# Altium schematic symbol library TL3472ID.SchLib: 1 symbol
Pins are listed as number, name and electrical type; pins without a type are passive.

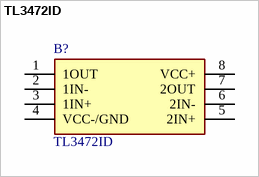
[diagram p0: symbol TL3472ID]

## TL3472ID
designator B?
HIGH-SLEW-RATE, SINGLE-SUPPLY OPERATIONAL AMPLIFIER; Manufacturer_Name: Texas Instruments; Geometry.Height: 1.75mm; Manufacturer_Part_Number: TL3472ID; Mouser Part Number: 595-TL3472ID; Mouser Price/Stock: https://www.mouser.co.uk/ProductDetail/Texas-Instruments/TL3472ID?qs=odmYgEirbwyqcIbDuNFdUw%3D%3D; Arrow Part Number: TL3472ID; Arrow Price/Stock: https://www.arrow.com/en/products/tl3472id/texas-instruments?region=nac; Datasheet Link: http://www.ti.com/lit/gpn/TL3472
footprint SOIC127P600X175-8N
pins: 1 1OUT, 2 1IN-, 3 1IN+, 4 VCC-/GND, 5 2IN+, 6 2IN-, 7 2OUT, 8 VCC+